# Altium schematic symbol library LM3406HVQMHXQ1.SchLib: 1 symbol
Pins are listed as number, name and electrical type; pins without a type are passive.

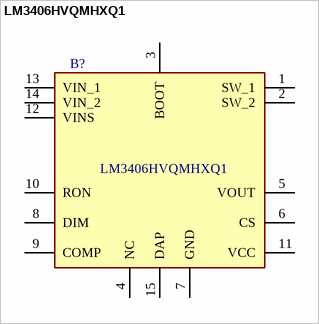
[diagram p0: symbol LM3406HVQMHXQ1]

## LM3406HVQMHXQ1
designator B?
1.5A Automotive Constant Current Buck Regulator for Driving High Power LEDs; Manufacturer_Name: Texas Instruments; Geometry.Height: 1.1mm; Mouser Part Number: 595-LM3406HVQMHXQ1; Mouser Price/Stock: https://www.mouser.co.uk/ProductDetail/Texas-Instruments/LM3406HVQMHXQ1?qs=p08Uhw9w2Fw6pHhObgkLGg%3D%3D; Manufacturer_Part_Number: LM3406HVQMHXQ1; Datasheet Link: http://www.ti.com/lit/gpn/lm3406hv-q1
footprint SOP65P640X110-15N
pins: 1 SW_1, 2 SW_2, 3 BOOT, 4 NC, 5 VOUT, 6 CS, 7 GND, 8 DIM, 9 COMP, 10 RON, 11 VCC, 12 VINS, 13 VIN_1, 14 VIN_2, 15 DAP